# Altium integrated library main.IntLib: 37 symbols (part 1 of 2)
Pins are listed as number, name and electrical type; pins without a type are passive.

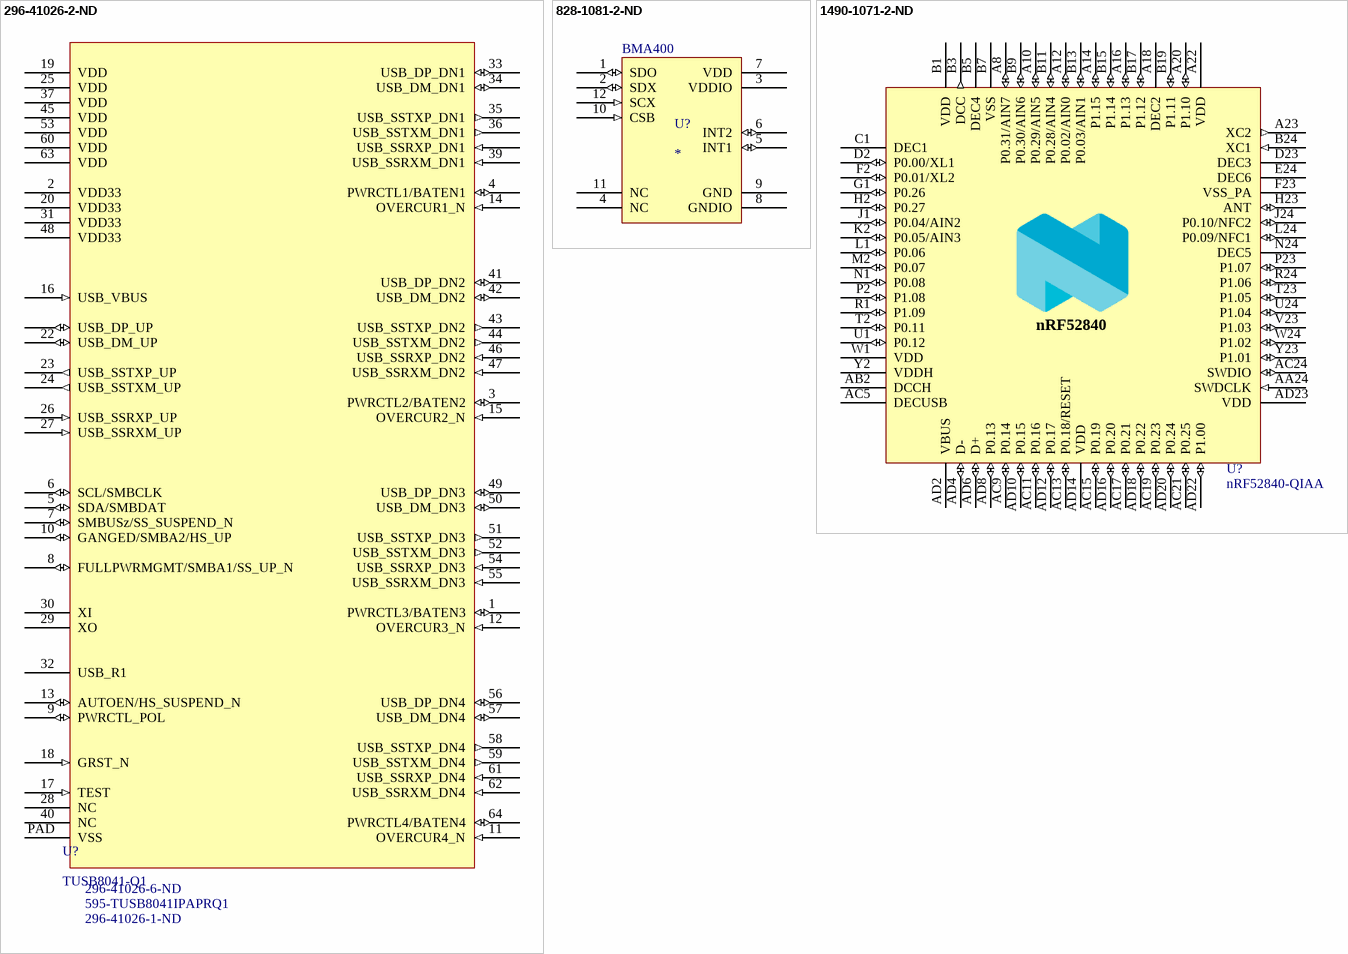
[diagram p0: symbols 296-41026-2-ND to 1490-1071-2-ND]

## 296-41026-2-ND
designator U?, comment TUSB8041-Q1  Supplier Part Number 1: 296-41026-1-ND  Supplier Part Number 2: 595-TUSB8041IPAPRQ1  Supplier Part Number 3: 296-41026-6-ND
Full Speed/High Speed/Super Speed Four Port USB 3.0 Hub USB 3.0 1.1V/3.3V T/R 64-Pin HTQFP EP; Manufacturer: Texas Instruments; Manufacturer Part Number: TUSB8041IPAPRQ1; Data Rate: 5Gbps; Number of Ports: 4; Interface: I2C,USB,GPIO,SMBus; Operating Supply Voltage: 3.3V; Supplier 1: Digi-Key; Supplier 2: Mouser; RoHS: Yes; Category: Integrated Circuits (ICs); Stock 1: 198; Pricing 1: 1=10.81000, 10=9.76800, 25=9.31360, 100=7.72340, 250=7.04188, 500=6.58758 (USD); Number of Pins: 64; Weight: 0.017506oz; Min Operating Temperature: -40°C; Max Operating Temperature: 85°C; Packaging: Tape and Reel; Package Quantity: 1000; Lead Free: Lead Free; ComponentLink1URL: https://datasheet.ciiva.com/48508/tusb8041-q1-48508158.pdf?src-supplier=Avnet; ComponentLink1Description: https://datasheet.ciiva.com/48508/tusb8041-q1-48508158.pdf?src-supplier=Avnet; Supplier 3: Digi-Key; Stock 3: 198; Pricing 3: 1=10.81000, 10=9.76800, 25=9.31360, 100=7.72340, 250=7.04188, 500=6.58758 (USD); Stock 2: 899; Pricing 2: 1=10.20000, 10=9.22000, 50=8.79000, 100=7.63000, 1000=5.79000, 10000=5.79000 (USD)
footprint TSQFP50P1200X1200X120_HS-65L (TSQFP, 64-Leads, Body 10.00x10.00mm, Pitch 0.50mm, Thermal Pad 8.00x8.00mm, IPC High Density)
pins: 1 PWRCTL3/BATEN3 (io) "USB Port 3 Power On Control for Downstream Power/Battery Charging Enable. The pin is used for control of the downstream power switch for Port 3.", 2 VDD33 (power) "3.3-V power rail", 3 PWRCTL2/BATEN2 (io) "USB Port 2 Power On Control for Downstream Power/Battery Charging Enable. The pin is used for control of the downstream power switch for Port 2.", 4 PWRCTL1/BATEN1 (io) "USB Port 1 Power On Control for Downstream Power/Battery Charging Enable. The pin is used for control of the downstream power switch for Port 1.", 5 SDA/SMBDAT (io) "I2C data/SMBus data. Function of pin depends on the setting of the SMBUSz input.", 6 SCL/SMBCLK (io) "I2C clock/SMBus clock. Function of pin depends on the setting of the SMBUSz input.", 7 SMBUSz/SS_SUSPEND_N (io) "I2C/SMBus mode select/SuperSpeed USB Suspend Status. The value of the pin is sampled at the de-assertion of reset set I2C or SMBus mode as follows:", 8 FULLPWRMGMT/SMBA1/SS_UP_N (io) "Full power management enable/SMBus address bit 1/SuperSpeed USB Connection Status Upstream port.", 9 PWRCTL_POL (io) "Power Control Polarity.", 10 GANGED/SMBA2/HS_UP (io) "Ganged operation enable/SMBus Address bit 2/HS Connection Status Upstream Port.", 11 OVERCUR4_N (in) "USB Port 4 Over-Current Detection. This pin is used to connect the over current output of the downstream port power switch for Port 4.", 12 OVERCUR3_N (in) "USB Port 3 Over-Current Detection. This pin is used to connect the over current output of the downstream port power switch for Port 3.", 13 AUTOEN/HS_SUSPEND_N (io) "Automatic Charge Mode Enable/HS Suspend Status.", 14 OVERCUR1_N (in) "USB Port 1 Over-Current Detection. This pin is used to connect the over current output of the downstream port power switch for Port 1.", 15 OVERCUR2_N (in) "USB Port 2 Over-Current Detection. This pin is used to connect the over current output of the downstream port power switch for Port 2.", 16 USB_VBUS (in) "USB upstream port power monitor. The VBUS detection requires a voltage divider. The signal USB_VBUS must be connected to VBUS through a 90.9-KΩ ±1% resistor, and to ground through a 10-kΩ ±1% resistor from the signal to ground.", 17 TEST (in) "This pin is reserved for factory test.", 18 GRST_N (in) "Global power reset. This reset brings all of the TUSB8041-Q1 internal registers to their default states. When GRSTz is asserted, the device is completely nonfunctional.", 19 VDD (power) "1.1-V power rail", 20 VDD33 (power) "3.3-V power rail", 21 USB_DP_UP (io) "USB High-speed differential transceiver (positive)", 22 USB_DM_UP (io) "USB High-speed differential transceiver (negative)", 23 USB_SSTXP_UP (out) "USB SuperSpeed transmitter differential pair (positive)", 24 USB_SSTXM_UP (out) "USB SuperSpeed transmitter differential pair (negative)", 25 VDD (power) "1.1-V power rail", 26 USB_SSRXP_UP (in) "USB SuperSpeed receiver differential pair (positive)", 27 USB_SSRXM_UP (in) "USB SuperSpeed receiver differential pair (negative)", 28 NC "No connect, leave floating", 29 XO "Crystal output. This pin is the crystal output for the internal oscillator. If XI is driven by an external oscillator this pin may be left unconnected. When using a crystal a 1-MΩ feedback resistor is required between XI and XO.", 30 XI "Crystal input. This pin is the crystal input for the internal oscillator. The input may alternately be driven by the output of an external oscillator. When using a crystal a 1-MΩ feedback resistor is required between XI and XO.", 31 VDD33 (power) "3.3-V power rail", 32 USB_R1 "Precision resistor reference. A 9.53-kΩ ±1% resistor should be connected between USB_R1 and GND.", 33 USB_DP_DN1 (io) "USB High-speed differential transceiver (positive)", 34 USB_DM_DN1 (io) "USB High-speed differential transceiver (negative)", 35 USB_SSTXP_DN1 (out) "USB SuperSpeed transmitter differential pair (positive)", 36 USB_SSTXM_DN1 (out) "USB SuperSpeed transmitter differential pair (negative)", 37 VDD (power) "1.1-V power rail", 38 USB_SSRXP_DN1 (in) "USB SuperSpeed receiver differential pair (positive)", 39 USB_SSRXM_DN1 (in) "USB SuperSpeed receiver differential pair (negative)", 40 NC "No connect, leave floating", 41 USB_DP_DN2 (io) "USB High-speed differential transceiver (positive)", 42 USB_DM_DN2 (io) "USB High-speed differential transceiver (negative)", 43 USB_SSTXP_DN2 (out) "USB SuperSpeed transmitter differential pair (positive)", 44 USB_SSTXM_DN2 (out) "USB SuperSpeed transmitter differential pair (negative)", 45 VDD (power) "1.1-V power rail", 46 USB_SSRXP_DN2 (in) "USB SuperSpeed receiver differential pair (positive)", 47 USB_SSRXM_DN2 (in) "USB SuperSpeed receiver differential pair (negative)", 48 VDD33 (power) "3.3-V power rail", 49 USB_DP_DN3 (io) "USB High-speed differential transceiver (positive)", 50 USB_DM_DN3 (io) "USB High-speed differential transceiver (negative)", 51 USB_SSTXP_DN3 (out) "USB SuperSpeed transmitter differential pair (positive)", 52 USB_SSTXM_DN3 (out) "USB SuperSpeed transmitter differential pair (negative)", 53 VDD (power) "1.1-V power rail", 54 USB_SSRXP_DN3 (in) "USB SuperSpeed receiver differential pair (positive)", 55 USB_SSRXM_DN3 (in) "USB SuperSpeed receiver differential pair (negative)", 56 USB_DP_DN4 (io) "USB High-speed differential transceiver (positive)", 57 USB_DM_DN4 (io) "USB High-speed differential transceiver (negative)", 58 USB_SSTXP_DN4 (out) "USB SuperSpeed transmitter differential pair (positive)", 59 USB_SSTXM_DN4 (out) "USB SuperSpeed transmitter differential pair (negative)", 60 VDD (power) "1.1-V power rail", 61 USB_SSRXP_DN4 (in) "USB SuperSpeed receiver differential pair (positive)", 62 USB_SSRXM_DN4 (in) "USB SuperSpeed receiver differential pair (negative)", 63 VDD (power) "1.1-V power rail", 64 PWRCTL4/BATEN4 (io) "USB Port 4 Power On Control for Downstream Power/Battery Charging Enable. The pin is used for control of the downstream power switch for Port 4.", PAD VSS (power) "Ground. Thermal pad must be connected to ground."

## 828-1081-2-ND
designator U?  Supplier Part Number: BMA400
ACCELERATION DIGITAL, TRIAXIAL; Manufacturer: Bosch Tools; Supplier 1: Digi-Key; Supplier 2: Mouser; Supplier: Arrow Electronics Inc.; Manufacturer Part Number: BMA400
pins: 1 SDO (io), 2 SDX (io), 3 VDDIO (power), 4 NC, 5 INT1 (io), 6 INT2 (io), 7 VDD (power), 8 GNDIO (power), 9 GND (power), 10 CSB (in), 11 NC, 12 SCX (in)

## 1490-1071-2-ND
designator U?, comment nRF52840-QIAA
Multi-protocol Bluetooth Low Energy, IEEE 802.15.4, ANT and 2.4GHz proprietary system-on-chip; Part Number: nRF52840-QIAAC0; Manufacturer: Nordic Semiconductor; LatestRevisionDate: 2018-02-27; Pin Count: 73; Publisher: Nordic Semiconductor; Published: 2017-08-21; Value: nRF52840-QIAA; Note: *; Footprint Doc: AQFN-73; Manufacturer Part Number: nRF52840-QIAAC0; Supplier 1: Digi-Key; Supplier Part Number 1: 1490-1071-2-ND
footprint AQFN50P700X700X85_HS-74N
pins: 74 GND (power) hidden to GND, A8 P0.31/AIN7 (io), A10 P0.29/AIN5 (io), A12 P0.02/AIN0 (io), A14 P1.15 (io), A16 P1.13 (io), A18 DEC2 (power), A20 P1.10 (io), A22 VDD (power), A23 XC2 (out), AA24 SWDCLK (in), AB2 DCCH (power), AC5 DECUSB (power), AC9 P0.14 (io), AC11 P0.16 (io), AC13 P0.18/RESET (io), AC15 P0.19 (io), AC17 P0.21 (io), AC19 P0.23 (io), AC21 P0.25 (io), AC24 SWDIO (io), AD2 VBUS (power), AD4 D- (io), AD6 D+ (io), AD8 P0.13 (io), AD10 P0.15 (io), AD12 P0.17 (io), AD14 VDD (power), AD16 P0.20 (io), AD18 P0.22 (io), AD20 P0.24 (io), AD22 P1.00 (io), AD23 VDD (power), B1 VDD (power), B3 DCC (out), B5 DEC4 (power), B7 VSS (power), B9 P0.30/AIN6 (io), B11 P0.28/AIN4 (io), B13 P0.03/AIN1 (io), B15 P1.14 (io), B17 P1.12 (io), B19 P1.11 (io), B24 XC1 (in), C1 DEC1 (power), D2 P0.00/XL1 (io), D23 DEC3 (power), E24 DEC6 (power), F2 P0.01/XL2 (io), F23 VSS_PA (power), G1 P0.26 (io), H2 P0.27 (io), H23 ANT (io), J1 P0.04/AIN2 (io), J24 P0.10/NFC2 (io), K2 P0.05/AIN3 (io), L1 P0.06 (io), L24 P0.09/NFC1 (io), M2 P0.07 (io), N1 P0.08 (io), N24 DEC5 (power), P2 P1.08 (io), P23 P1.07 (io), R1 P1.09 (io), R24 P1.06 (io), T2 P0.11 (io), T23 P1.05 (io), U1 P0.12 (io), U24 P1.04 (io), V23 P1.03 (io), W1 VDD (power), W24 P1.02 (io), Y2 VDDH (power), Y23 P1.01 (io)
text: nRF52840

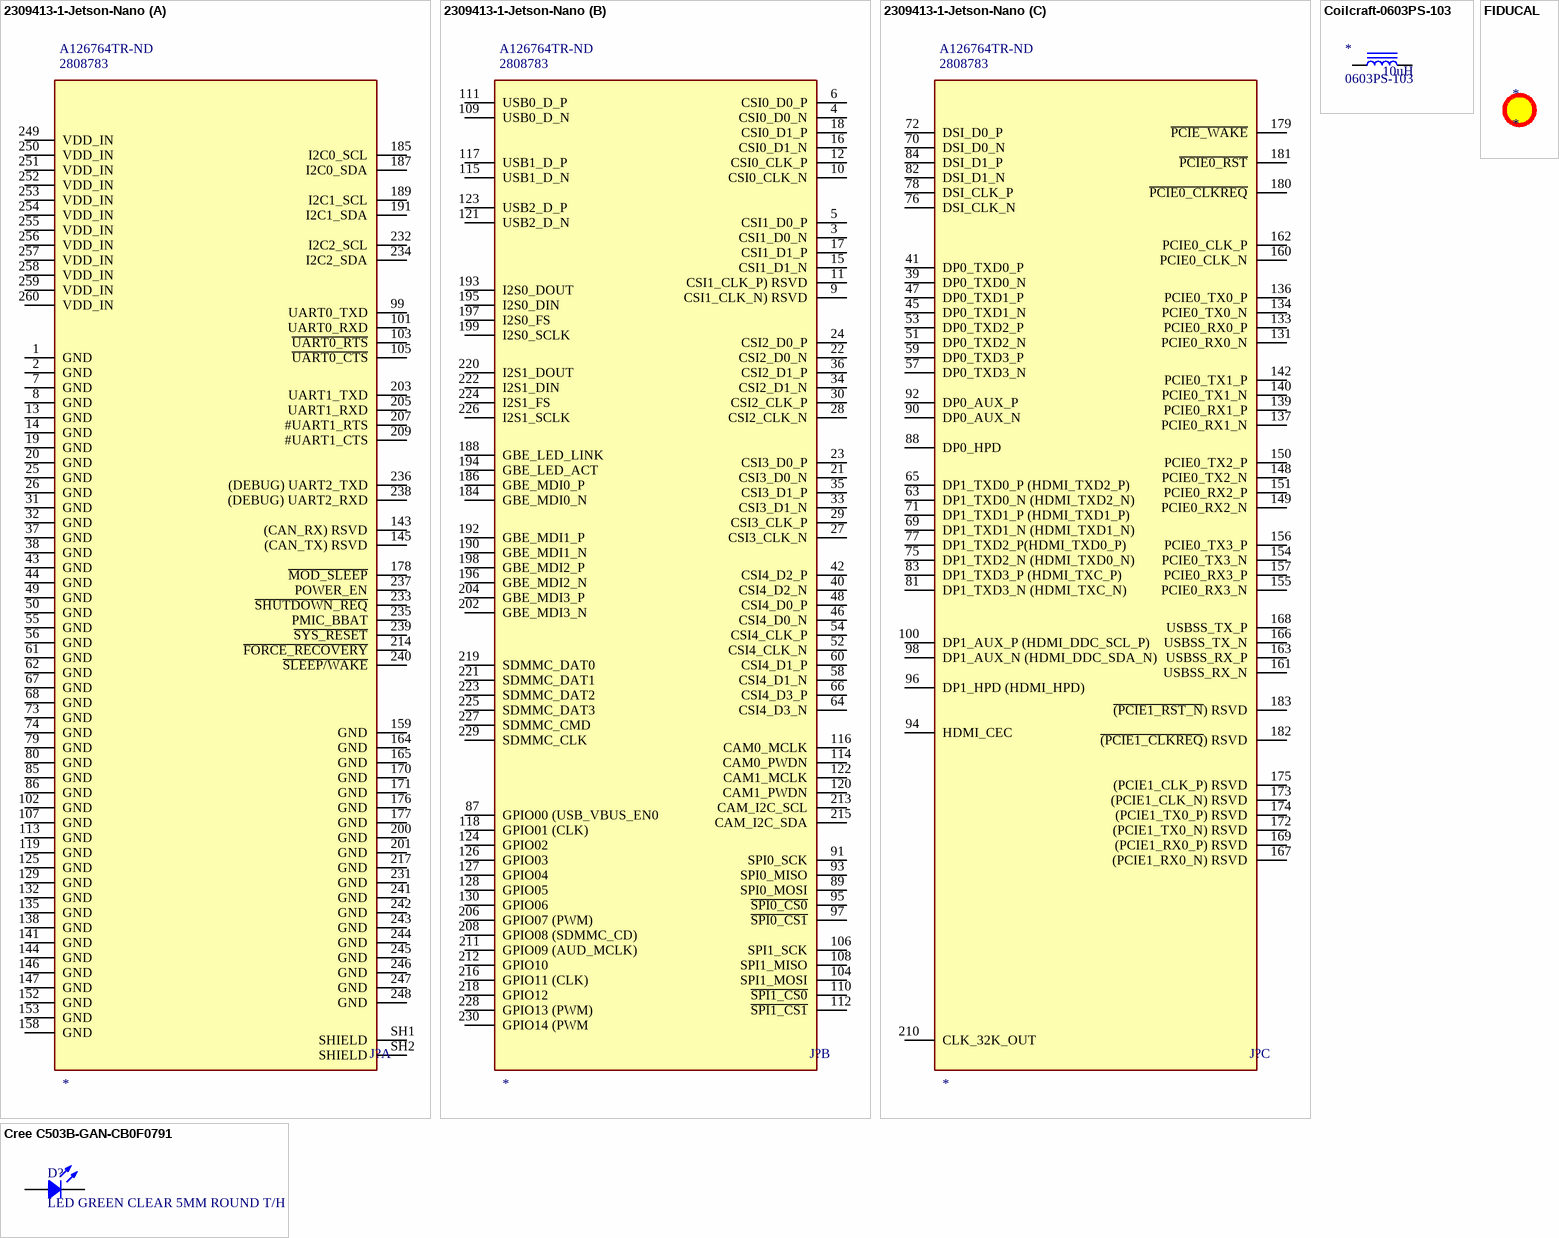
[diagram p1: symbols 2309413-1-Jetson-Nano to FIDUCAL]

## 2309413-1-Jetson-Nano
designator J?, comment Supplier Part Number 1: 2808783  Supplier Part Number 2: A126764TR-ND  (hidden comment: 2309413-1)
Conn DDR4 DIMM Socket SKT 260 POS 0.5mm Solder RA SMD T/R for Jetson Nano; Number_of_Positions: 260; MF: TE Connectivity; Centerline_Pitch: .5 mm[.0197 in]; Product_Type: Socket; TE_purchase_URL: https://www.te.com/usa-en/product-2309413-1.html?te_bu=Cor&te_type=disp&te_campaign=seda_glo_cor-seda-global-disp-prtnr-fy19-seda-model-bom-cta_sma-317_1&elqCampaignId=32493; Package: None; SnapEDA_Link: https://www.snapeda.com/parts/2309413-1/TE%20Connectivity%20AMP%20Connectors/view-part/2381121/?ref=snap; MP: 2309413-1; Value: *; Availability: Unavailable; EU_RoHS_Compliance: Compliant; Price: None; Supplier 1: Farnell; Supplier 2: Digi-Key; Comment_1: *
footprint TE_2309413-1
part A pins: 1 GND, 2 GND, 7 GND, 8 GND, 13 GND, 14 GND, 19 GND, 20 GND, 25 GND, 26 GND, 31 GND, 32 GND, 37 GND, 38 GND, 43 GND, 44 GND, 49 GND, 50 GND, 55 GND, 56 GND, 61 GND, 62 GND, 67 GND, 68 GND, 73 GND, 74 GND, 79 GND, 80 GND, 85 GND, 86 GND, 99 UART0_TXD, 101 UART0_RXD, 102 GND, 103 ~{UART0_RTS}, 105 ~{UART0_CTS}, 107 GND, 113 GND, 119 GND, 125 GND, 129 GND, 132 GND, 135 GND, 138 GND, 141 GND, 143 (CAN_RX) RSVD, 144 GND, 145 (CAN_TX) RSVD, 146 GND, 147 GND, 152 GND, 153 GND, 158 GND, 159 GND, 164 GND, 165 GND, 170 GND, 171 GND, 176 GND, 177 GND, 178 ~{MOD_SLEEP}, 185 I2C0_SCL, 187 I2C0_SDA, 189 I2C1_SCL, 191 I2C1_SDA, 200 GND, 201 GND, 203 UART1_TXD, 205 UART1_RXD, 207 #UART1_RTS, 209 #UART1_CTS, 214 ~{FORCE_RECOVERY}, 217 GND, 231 GND, 232 I2C2_SCL, 233 ~{SHUTDOWN_REQ}, 234 I2C2_SDA, 235 PMIC_BBAT, 236 (DEBUG) UART2_TXD, 237 POWER_EN, 238 (DEBUG) UART2_RXD, 239 ~{SYS_RESET}, 240 ~{SLEEP/WAKE}, 241 GND, 242 GND, 243 GND, 244 GND, 245 GND, 246 GND, 247 GND, 248 GND, 249 VDD_IN (power), 250 VDD_IN (power), 251 VDD_IN (power), 252 VDD_IN (power), 253 VDD_IN (power), 254 VDD_IN (power), 255 VDD_IN (power), 256 VDD_IN (power), 257 VDD_IN (power), 258 VDD_IN (power), 259 VDD_IN (power), 260 VDD_IN (power), SH1 SHIELD (power), SH2 SHIELD (power)
part B pins: 3 CSI1_D0_N, 4 CSI0_D0_N, 5 CSI1_D0_P, 6 CSI0_D0_P, 9 CSI1_CLK_N) RSVD, 10 CSI0_CLK_N, 11 CSI1_CLK_P) RSVD, 12 CSI0_CLK_P, 15 CSI1_D1_N, 16 CSI0_D1_N, 17 CSI1_D1_P, 18 CSI0_D1_P, 21 CSI3_D0_N, 22 CSI2_D0_N, 23 CSI3_D0_P, 24 CSI2_D0_P, 27 CSI3_CLK_N, 28 CSI2_CLK_N, 29 CSI3_CLK_P, 30 CSI2_CLK_P, 33 CSI3_D1_N, 34 CSI2_D1_N, 35 CSI3_D1_P, 36 CSI2_D1_P, 40 CSI4_D2_N, 42 CSI4_D2_P, 46 CSI4_D0_N, 48 CSI4_D0_P, 52 CSI4_CLK_N, 54 CSI4_CLK_P, 58 CSI4_D1_N, 60 CSI4_D1_P, 64 CSI4_D3_N, 66 CSI4_D3_P, 87 GPIO00 (USB_VBUS_EN0, 89 SPI0_MOSI, 91 SPI0_SCK, 93 SPI0_MISO, 95 ~{SPI0_CS0}, 97 ~{SPI0_CS1}, 104 SPI1_MOSI, 106 SPI1_SCK, 108 SPI1_MISO, 109 USB0_D_N, 110 ~{SPI1_CS0}, 111 USB0_D_P, 112 ~{SPI1_CS1}, 114 CAM0_PWDN, 115 USB1_D_N, 116 CAM0_MCLK, 117 USB1_D_P, 118 GPIO01 (CLK), 120 CAM1_PWDN, 121 USB2_D_N, 122 CAM1_MCLK, 123 USB2_D_P, 124 GPIO02, 126 GPIO03, 127 GPIO04, 128 GPIO05, 130 GPIO06, 184 GBE_MDI0_N, 186 GBE_MDI0_P, 188 GBE_LED_LINK, 190 GBE_MDI1_N, 192 GBE_MDI1_P, 193 I2S0_DOUT, 194 GBE_LED_ACT, 195 I2S0_DIN, 196 GBE_MDI2_N, 197 I2S0_FS, 198 GBE_MDI2_P, 199 I2S0_SCLK, 202 GBE_MDI3_N, 204 GBE_MDI3_P, 206 GPIO07 (PWM), 208 GPIO08 (SDMMC_CD), 211 GPIO09 (AUD_MCLK), 212 GPIO10, 213 CAM_I2C_SCL, 215 CAM_I2C_SDA, 216 GPIO11 (CLK), 218 GPIO12, 219 SDMMC_DAT0, 220 I2S1_DOUT, 221 SDMMC_DAT1, 222 I2S1_DIN, 223 SDMMC_DAT2, 224 I2S1_FS, 225 SDMMC_DAT3, 226 I2S1_SCLK, 227 SDMMC_CMD, 228 GPIO13 (PWM), 229 SDMMC_CLK, 230 GPIO14 (PWM
part C pins: 39 DP0_TXD0_N, 41 DP0_TXD0_P, 45 DP0_TXD1_N, 47 DP0_TXD1_P, 51 DP0_TXD2_N, 53 DP0_TXD2_P, 57 DP0_TXD3_N, 59 DP0_TXD3_P, 63 DP1_TXD0_N (HDMI_TXD2_N), 65 DP1_TXD0_P (HDMI_TXD2_P), 69 DP1_TXD1_N (HDMI_TXD1_N), 70 DSI_D0_N, 71 DP1_TXD1_P (HDMI_TXD1_P), 72 DSI_D0_P, 75 DP1_TXD2_N (HDMI_TXD0_N), 76 DSI_CLK_N, 77 DP1_TXD2_P(HDMI_TXD0_P), 78 DSI_CLK_P, 81 DP1_TXD3_N (HDMI_TXC_N), 82 DSI_D1_N, 83 DP1_TXD3_P (HDMI_TXC_P), 84 DSI_D1_P, 88 DP0_HPD, 90 DP0_AUX_N, 92 DP0_AUX_P, 94 HDMI_CEC, 96 DP1_HPD (HDMI_HPD), 98 DP1_AUX_N (HDMI_DDC_SDA_N), 100 DP1_AUX_P (HDMI_DDC_SCL_P), 131 PCIE0_RX0_N, 133 PCIE0_RX0_P, 134 PCIE0_TX0_N, 136 PCIE0_TX0_P, 137 PCIE0_RX1_N, 139 PCIE0_RX1_P, 140 PCIE0_TX1_N, 142 PCIE0_TX1_P, 148 PCIE0_TX2_N, 149 PCIE0_RX2_N, 150 PCIE0_TX2_P, 151 PCIE0_RX2_P, 154 PCIE0_TX3_N, 155 PCIE0_RX3_N, 156 PCIE0_TX3_P, 157 PCIE0_RX3_P, 160 PCIE0_CLK_N, 161 USBSS_RX_N, 162 PCIE0_CLK_P, 163 USBSS_RX_P, 166 USBSS_TX_N, 167 (PCIE1_RX0_N) RSVD, 168 USBSS_TX_P, 169 (PCIE1_RX0_P) RSVD, 172 (PCIE1_TX0_N) RSVD, 173 (PCIE1_CLK_N) RSVD, 174 (PCIE1_TX0_P) RSVD, 175 (PCIE1_CLK_P) RSVD, 179 ~{PCIE_WAKE}, 180 ~{PCIE0_CLKREQ}, 181 ~{PCIE0_RST}, 182 ~{(PCIE1_CLKREQ}) RSVD, 183 ~{(PCIE1_RST_N}) RSVD, 210 CLK_32K_OUT

## Coilcraft-0603PS-103
designator *, comment 0603PS-103  value 10uH
Supplier 1: Mouser; Supplier Part Number 1: 994-0603PS-103KRC
footprint Coilcraft-0603PS-103 (Chip Inductor, 2-Leads, Body 2.59x2.08mm, IPC High Density)
pins: 1, 2

## Cree C503B-GAN-CB0F0791
designator D?, comment LED GREEN CLEAR 5MM ROUND T/H
Manufacturer: Cree; Manufacturer Part Number: C503B-GAN-CB0F0791; Lens Color: Colorless; Luminous Intensity: 34000mcd; Viewing Angle: 15°; Forward Voltage: 3.2V; Lens Style: Dome,Round; Wavelength: 535nm; Forward Current: 20mA; Dominant Wavelength: 527nm; Number of Elements: 1; Power Dissipation: 120mW; Reverse Voltage: 5V; Supplier 1: Digi-Key; Supplier Part Number 1: C503B-GAN-CB0F0791-ND; RoHS: Yes; Category: LEDs; Stock 1: 10226; Pricing 1: 1=0.24000, 10=0.22700, 100=0.20980, 1000=0.18769, 50000=0.17429 (USD); Mount: Through Hole; Case/Package: Radial; Number of Pins: 2; Color: Green; Weight: 0.01lb; Min Operating Temperature: -40°C; Max Operating Temperature: 95°C; Packaging: Bulk; Illumination Color: Green; Lens Transparency: Clear; Test Current: 20mA; Number of LEDs: 1; Series: -; Length: 5.8mm; Width: 0.5inch; Height: 8.8mm; Depth: 5.8mm; Radiation Hardening: No; REACH SVHC: Unknown; RoHS Compliant: Yes; ComponentLink1URL: https://datasheet.ciiva.com/26926/getdatasheetpartid-467667-26926700.pdf?src-supplier=Verical; ComponentLink1Description: https://datasheet.ciiva.com/26926/getdatasheetpartid-467667-26926700.pdf?src-supplier=Verical; ComponentLink2URL: https://datasheet.ciiva.com/1331/1604976-1331799.pdf?src-supplier=Newark; ComponentLink2Description: https://datasheet.ciiva.com/1331/1604976-1331799.pdf?src-supplier=Newark; ComponentLink3URL: https://datasheet.ciiva.com/8076/c503bbasbanbcsbcngasgangcsgcn1094-8076247.pdf?src-supplier=Element14; ComponentLink3Description: https://datasheet.ciiva.com/8076/c503bbasbanbcsbcngasgangcsgcn1094-8076247.pdf?src-supplier=Element14; ComponentLink4URL: https://datasheet.ciiva.com/2111/1300c503bbasbangasgan-2111678.pdf?src-supplier=Digi-Key; ComponentLink4Description: https://datasheet.ciiva.com/2111/1300c503bbasbangasgan-2111678.pdf?src-supplier=Digi-Key; Supplier 2: Avnet; Supplier Part Number 2: 04R6676; Supplier 3: Farnell; Supplier Part Number 3: 1855510
footprint Generic 2.54mm LED THT
pins: 1, 2

## FIDUCAL
designator *

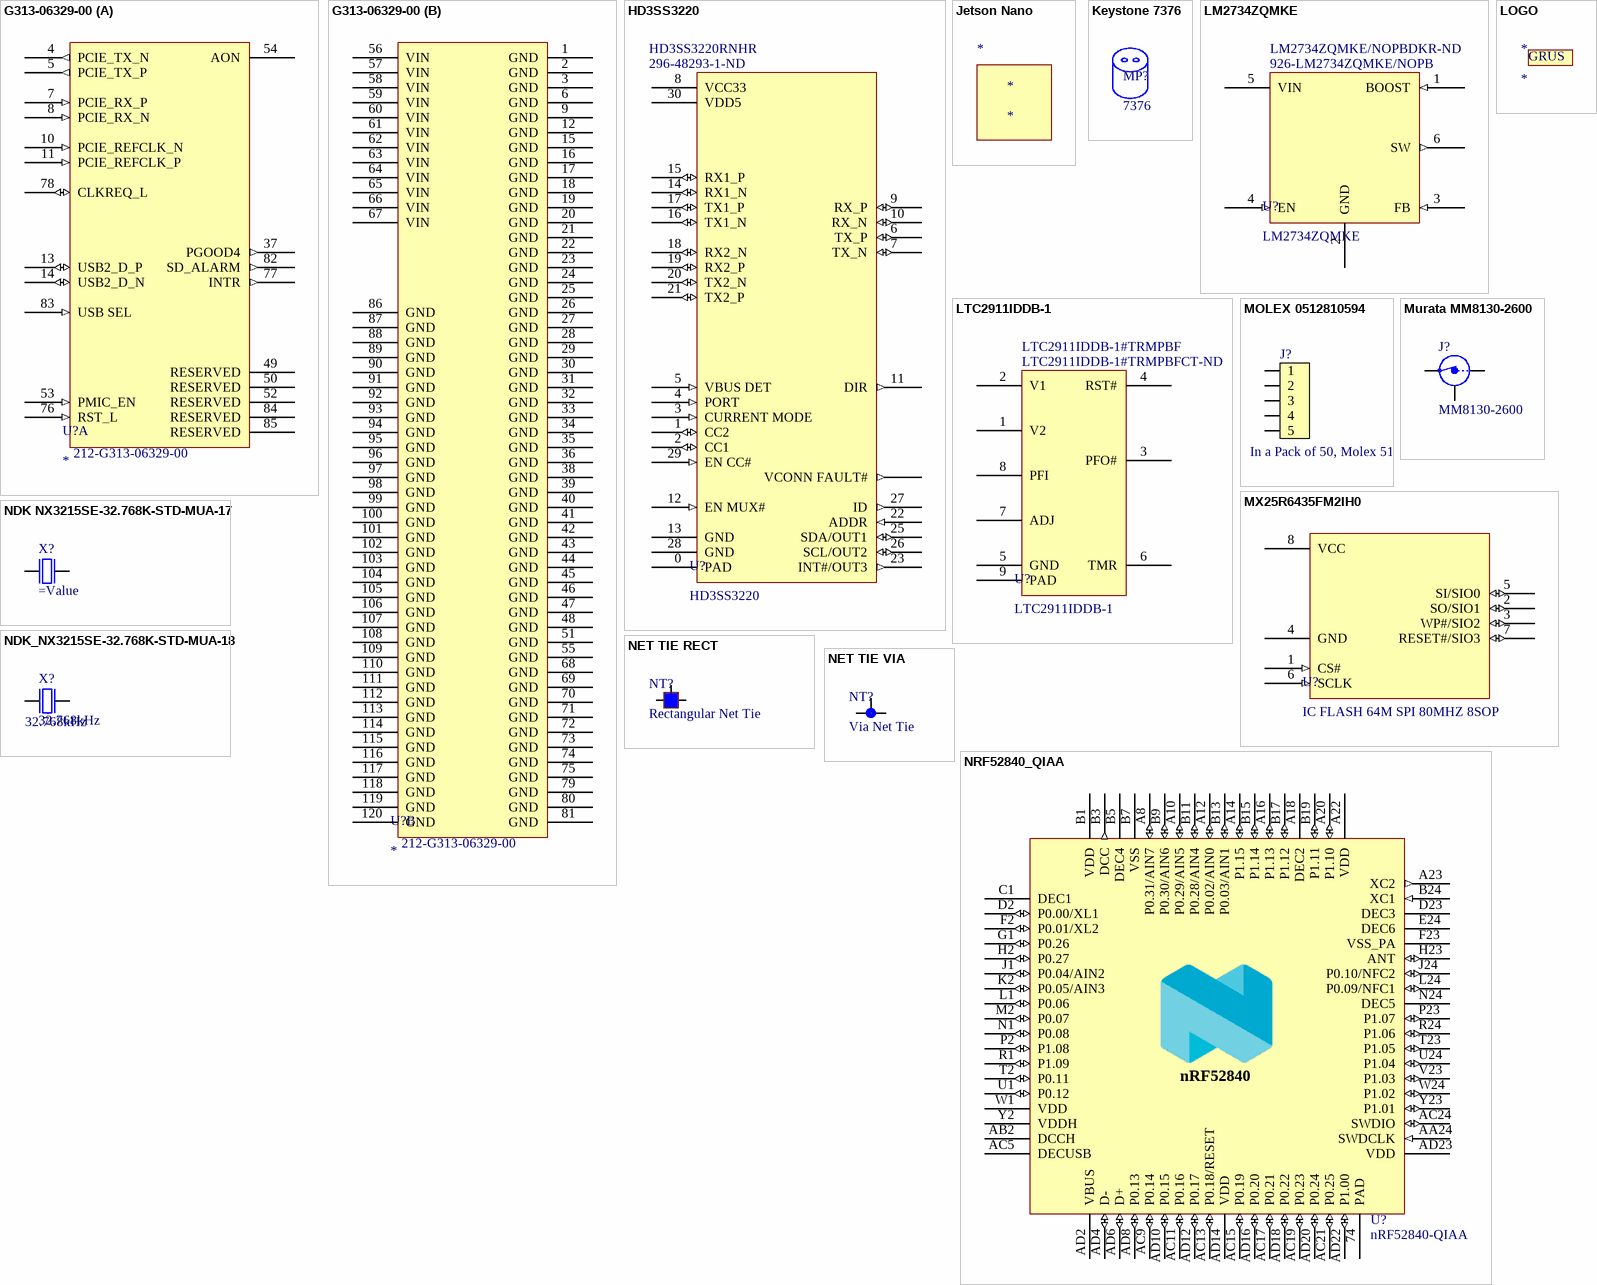
[diagram p2: symbols G313-06329-00 to NRF52840_QIAA]

## G313-06329-00
designator U?  Supplier Part Number 1: 212-G313-06329-00
Manufacturer: Google; Manufacturer Part Number: G313-06329-00; Supplier 1: Mouser; RoHS: No
footprint G313-06329-00
part A pins: 4 PCIE_TX_N (out) "PCIe differential transmit pair. Has internal 0.1 μF DC-blocking cap.", 5 PCIE_TX_P (out) "PCIe differential transmit pair. Has internal 0.1 μF DC-blocking cap.", 7 PCIE_RX_P (in) "PCIe differential receive pair.", 8 PCIE_RX_N (in) "PCIe differential receive pair.", 10 PCIE_REFCLK_N (in) "PCIe differential reference clock.", 11 PCIE_REFCLK_P (in) "PCIe differential reference clock.", 13 USB2_D_P (io) "USB2 DP interface.", 14 USB2_D_N (io) "USB2 DN interface.", 37 PGOOD4 (out) "Optional. Power OK signal, active high. Has internal 10K pull-down.", 49 RESERVED "Reserved. If using single 3.3 V supply, ground. Otherwise, DNC.", 50 RESERVED "Reserved. If using single 3.3 V supply, ground. Otherwise, DNC.", 52 RESERVED "Reserved. DNC.", 53 PMIC_EN (in) "Power enable input. Must drive high to enable the module.", 54 AON (power) "Power supply for digital communications (PMIC)", 76 RST_L (in) "System reset. Active low. Has internal weak pull-down, but you must be sure it's held low during  power-up. Size the pull-up strength of the driver accordingly", 77 INTR (out) "Optional. This is the first line that goes high at a specified Edge TPU  junction temperature. Recommended for thermal management. Has  internal 100k pull-down.", 78 CLKREQ_L (io) "Optional. Low-power mode option for PCIe. This is a bidirectional  open drain I/O. It should be implemented as per the PCIe spec,  including a proper bidirectional level translator. On systems that  never invoke low power modes, this can be tied low.", 82 SD_ALARM (out) "Shutdown alarm. This is the second line that goes high at a specified  Edge TPU junction temperature. This should trigger shutdown. Has  internal 100k pull-down", 83 USB SEL (in) "Pull high (1.8 V) to enable USB2  mode. Has internal 4.7k  pull-down. Use 0 ohm or tie  directly to 1.8V.", 84 RESERVED "Reserved. DNC.", 85 RESERVED "Reserved. DNC."
part B pins: 1 GND, 2 GND, 3 GND, 6 GND, 9 GND, 12 GND, 15 GND, 16 GND, 17 GND, 18 GND, 19 GND, 20 GND, 21 GND, 22 GND, 23 GND, 24 GND, 25 GND, 26 GND, 27 GND, 28 GND, 29 GND, 30 GND, 31 GND, 32 GND, 33 GND, 34 GND, 35 GND, 36 GND, 38 GND, 39 GND, 40 GND, 41 GND, 42 GND, 43 GND, 44 GND, 45 GND, 46 GND, 47 GND, 48 GND, 51 GND, 55 GND, 56 VIN (power) "3.3 V power supply.", 57 VIN (power) "3.3 V power supply.", 58 VIN (power) "3.3 V power supply.", 59 VIN (power) "3.3 V power supply.", 60 VIN (power) "3.3 V power supply.", 61 VIN (power) "3.3 V power supply.", 62 VIN (power) "3.3 V power supply.", 63 VIN (power) "3.3 V power supply.", 64 VIN (power) "3.3 V power supply.", 65 VIN (power) "3.3 V power supply.", 66 VIN (power) "3.3 V power supply.", 67 VIN (power) "3.3 V power supply.", 68 GND, 69 GND, 70 GND, 71 GND, 72 GND, 73 GND, 74 GND, 75 GND, 79 GND, 80 GND, 81 GND, 86 GND, 87 GND, 88 GND, 89 GND, 90 GND, 91 GND, 92 GND, 93 GND, 94 GND, 95 GND, 96 GND, 97 GND, 98 GND, 99 GND, 100 GND, 101 GND, 102 GND, 103 GND, 104 GND, 105 GND, 106 GND, 107 GND, 108 GND, 109 GND, 110 GND, 111 GND, 112 GND, 113 GND, 114 GND, 115 GND, 116 GND, 117 GND, 118 GND, 119 GND, 120 GND

## HD3SS3220
designator U?  Supplier Part Number 1: 296-48293-1-ND  Supplier Part Number 2: HD3SS3220RNHR
IC DRP PORT CTLR USB-C 30WQFN; Manufacturer: Texas Instruments; Supplier 1: Digi-Key; Manufacturer Part Number: HD3SS3220RNHR; RoHS: Yes; Category: Power Management ICs; Stock 1: 569; Pricing 1: 1=3.23000, 10=2.90100, 25=2.74280, 100=2.25520, 250=2.02352, 500=1.95040, 1000=1.62127 (USD); Mount: Surface Mount; Min Operating Temperature: 0°C; Max Operating Temperature: 70°C; Packaging: Tape and Reel; Lead Free: Lead Free; RoHS Compliant: Yes; ComponentLink1URL: http://www.ti.com/lit/gpn/hd3ss3220?src-supplier=Mouser; ComponentLink1Description: http://www.ti.com/lit/gpn/hd3ss3220?src-supplier=Mouser; ComponentLink2URL: http://www.ti.com/lit/ds/symlink/hd3ss3220.pdf?src-supplier=Digi-Key; ComponentLink2Description: http://www.ti.com/lit/ds/symlink/hd3ss3220.pdf?src-supplier=Digi-Key; ComponentLink3URL: http://www.ti.com/general/docs/suppproductinfo.tsp?distId=10&amp;gotoUrl=http%3A%2F%2Fwww.ti.com%2Flit%2Fgpn%2Fhd3ss3220&src-supplier=Digi-Key; ComponentLink3Description: http://www.ti.com/general/docs/suppproductinfo.tsp?distId=10&amp;gotoUrl=http%3A%2F%2Fwww.ti.com%2Flit%2Fgpn%2Fhd3ss3220&src-supplier=Digi-Key; Supplier 2: Arrow Electronics; Stock 2: 416; Pricing 2: 1=3.73630, 10=3.40400, 25=3.00030, 100=2.66110, 250=2.49660, 3000=1.61000, 30000=1.58500, 300000=1.43200, 1500000=1.33300, 3000000=1.33100 (USD)
footprint PQFN40P250X450X80_HS-31L (PQFN, 30-Leads, Body 2.50x4.50mm, Pitch 0.40mm, Thermal Pad 1.20x3.20mm, IPC High Density)
pins: 0 PAD, 1 CC2 (io), 2 CC1 (io), 3 CURRENT MODE (in), 4 PORT (in), 5 VBUS DET (in), 6 TX_P (io), 7 TX_N (io), 8 VCC33 (power), 9 RX_P (io), 10 RX_N (io), 11 DIR (out), 12 EN MUX# (in), 13 GND, 14 RX1_N (io), 15 RX1_P (io), 16 TX1_N (io), 17 TX1_P (io), 18 RX2_N (io), 19 RX2_P (io), 20 TX2_N (io), 21 TX2_P (io), 22 ADDR (in), 23 INT#/OUT3 (out), 24 VCONN FAULT# (out), 25 SDA/OUT1 (io), 26 SCL/OUT2 (io), 27 ID (out), 28 GND, 29 EN CC# (in), 30 VDD5 (power)

## Jetson Nano
designator *
footprint 900-13448-0020-000 (NVidia Jetson Nano 3D Body)

## Keystone 7376
designator MP?, comment 7376  (mechanical)
SPACER LED MTG T1 .650"L NAT NYL; Manufacturer: Keystone Electronics; Approvals: UL; Body Material: Nylon; Outside Diameter: 5mm; Supplier 1: Digi-Key; Supplier Part Number 1: 36-7376-ND; Supplier 2: Future Electronics; Supplier Part Number 2: 9604604; Supplier 3: Mouser; Supplier Part Number 3: 534-7376; Category: LEDs; Color: Natural; Diameter: 0.075inch; Flammability Rating: UL94 V-0; Lead Free: Lead Free; Length: 0.65inch; Manufacturer Part Number: 7376; Material: Nylon; Mount: Hardware; Package Quantity: 100; Packaging: Bag; Supplier Packaging 1: Bulk; Supplier Unit Price 1: €0.23798; Supplier Location 1: US
footprint Keystone 7376

## LM2734ZQMKE
designator U?  Supplier Part Number 1: 926-LM2734ZQMKE/NOPB  Supplier Part Number 2: LM2734ZQMKE/NOPBDKR-ND
IC BUCK ADJ 1A TSOT23-6; Manufacturer: TI National Semiconductor; Manufacturer Part Number: LM2734ZQMKE/NOPB; Output Voltage: 18V; Number of Outputs: 1; Min Input Voltage: 3V; Max Input Voltage: 20V; Switching Frequency: 3MHz; Min Output Voltage: 800mV; Efficiency: 85%; Synchronous Rectifier: No; Quiescent Current: 1.7mA; Output Type: Adjustable; Output Configuration: Positive; Supplier 1: Mouser; RoHS: Yes; Category: Voltage Regulators - Switching; Stock 1: 240; Pricing 1: 1=4.58000, 10=4.11000, 50=3.89000, 100=3.20000, 1000=2.30000, 10000=2.22000 (USD); Mount: Surface Mount; Case/Package: SOT-23-6; Number of Pins: 6; Min Operating Temperature: -40°C; Max Operating Temperature: 125°C; Packaging: Tape and Reel; Max Output Current: 1A; Output Current: 1A; Max Output Voltage: 18V; Package Quantity: 250; Operating Supply Voltage: 20V; Series: Automotive, AEC-Q100; Radiation Hardening: No; REACH SVHC: No SVHC; RoHS Compliant: Yes; Lead Free: Lead Free; ComponentLink1URL: https://datasheet.ciiva.com/6604/lm2734z-6604454.pdf?src-supplier=Digi-Key; ComponentLink1Description: https://datasheet.ciiva.com/6604/lm2734z-6604454.pdf?src-supplier=Digi-Key; ComponentLink2URL: https://datasheet.ciiva.com/14304/lm2734z-q1-14304614.pdf?src-supplier=Avnet; ComponentLink2Description: https://datasheet.ciiva.com/14304/lm2734z-q1-14304614.pdf?src-supplier=Avnet; ComponentLink3URL: https://datasheet.ciiva.com/6604/lm2734z-6604455.pdf?src-supplier=Digi-Key; ComponentLink3Description: https://datasheet.ciiva.com/6604/lm2734z-6604455.pdf?src-supplier=Digi-Key; ComponentLink4URL: https://datasheet.ciiva.com/6604/lm2734z-6604456.pdf?src-supplier=Digi-Key; ComponentLink4Description: https://datasheet.ciiva.com/6604/lm2734z-6604456.pdf?src-supplier=Digi-Key; ComponentLink5URL: https://datasheet.ciiva.com/49118/85233-49118479.pdf?src-supplier=Element14; ComponentLink5Description: https://datasheet.ciiva.com/49118/85233-49118479.pdf?src-supplier=Element14; Supplier 2: Digi-Key; Stock 2: 20; Pricing 2: 1=4.85000, 10=4.35700, 25=4.11880, 100=3.38660 (USD)
footprint SOT95P280X110-6L (SOT23, 6-Leads, Body 2.90x2.80mm, Pitch 0.95mm, IPC High Density)
pins: 1 BOOST (in) "Boost voltage that drives the internal NMOS control switch. A bootstrap BOOST 1 3 I  capacitor is connected between the BOOST and SW pins.", 2 GND (power) "Signal and Power ground pin. Place the bottom resistor of the feedback network GND 2 2 P  as close as possible to this pin for accurate regulation.", 3 FB (in) "Feedback pin. Connect FB to the external resistor divider to set output voltage", 4 EN (in) "Enable control input. Logic high enables operation. Do not allow this pin to float EN 4 6 I  or be greater than VIN + 0.3 V.", 5 VIN (power) "Input supply voltage. Connect a bypass capacitor to this pin.", 6 SW (out) "Output switch. Connects to the inductor, catch diode, and bootstrap capacitor."

## LOGO
designator *
footprint PCBComponent_1
footprint GRUS LOGO SILKSCREEN
text: GRUS

## LTC2911IDDB-1
designator U?  Supplier Part Number 1: LTC2911IDDB-1#TRMPBFCT-ND  Supplier Part Number 2: LTC2911IDDB-1#TRMPBF
IC TRPL SUPPLY MONITOR 8-DFN; Manufacturer: Analog Devices / Linear Technology; Number of Voltages Monitored: 3; Reset: Active Low; Threshold Voltage: 4.675V; Output: TOTEM-POLE; Supplier 1: Digi-Key; Manufacturer Part Number: LTC2911IDDB-1#TRMPBF; RoHS: Yes; Category: Voltage Supervisors; Stock 1: 353; Pricing 1: 1=4.80000, 10=4.31400, 25=4.07840, 100=3.35330, 250=3.00892 (USD); Case/Package: DFN; Number of Pins: 8; Min Operating Temperature: -40°C; Max Operating Temperature: 85°C; Package Quantity: 500; Packaging: Tape and Reel; Type: Multi-Voltage Supervisor,Power Supply Monitor; Series: -; RoHS Compliant: Yes; Lead Free: Lead Free; ComponentLink1URL: https://datasheet.ciiva.com/1978/29887-1978752.pdf?src-supplier=Digi-Key; ComponentLink1Description: https://datasheet.ciiva.com/1978/29887-1978752.pdf?src-supplier=Digi-Key; Supplier 2: Arrow Electronics; Stock 2: 64; Pricing 2: 1=2.50000, 100=2.19300, 500=2.12000 (USD)
footprint SON50P200X80_HS-9L (SON, 8-Leads, Body 3.00x2.00mm, Pitch 0.50mm, Thermal Pad 0.00x0.00mm, IPC High Density)
pins: 1 V2 "Voltage Monitor and Power Supply Input. V2 is a  –5% undervoltage supply monitor for a 5V, 2.5V, 1.8V  or 1.2V supply for the LTC2911-1/LTC2911-2/LTC2911-  3/LTC2911-4 options, respectively.", 2 V1 "3.3V Monitor and Power Supply Input.", 3 PFO# "Power-Fail Logic Output. This pin asserts low when  the PFI input voltage is below its threshold and goes high  when the PFI input voltage is above its threshold. This pin  provides a weak pull-up current to V1. This current is typically 29µA at V1 = 3.3V. The pin can be pulled to voltages  higher than V1 by external pull-up resistors. PFO provides  an early warning signal of a system power failure.", 4 RST# "Reset Logic Output. This pin asserts low when any  of the V1, V2, or ADJ inputs are below their reset thresholds. Pulls high when all the monitored inputs are above  their thresholds for longer than a timeout period. This pin  provides a weak pull-up current to V1. This current is typically 29µA at V1 = 3.3V. The pin can be pulled to voltages  higher than V1 by external pull-up resistors. The status of  RST can be latched by holding the TMR pin at GND", 5 GND "Device Ground.", 6 TMR "Reset Timeout Control. Attach an external capacitor,  CTMR, to GND to set a reset timeout period of 9.4ms/nF. A  low leakage ceramic capacitor is recommended for timer  accuracy. A 2.2nF capacitor generates a 20ms timeout.", 7 ADJ ": Adjustable Voltage Monitor Input.", 8 PFI "Power-Fail Voltage Monitor Input. Input to the powerfail comparator with a 500mV threshold at the falling  edge and a 515mV threshold at the rising edge, giving  a 3% hysteresis for noise rejection. Tie to V1 or GND if  unused", 9 PAD "Exposed pad may be left open  or connected to device ground."

## MOLEX 0512810594
designator J?, comment In a Pack of 50, Molex 51281 Series 0.5mm Pitch 5 Way SMT Female FPC Connector, Non-ZIF
Manufacturer Part Number: 0512810594; Voltage Rating: 50V; Current Rating: 500mA; Number of Positions: 5; Contact Resistance: 20mR; Wire/Cable Type: Straight; Supplier 1: Digi-Key; Supplier Part Number 1: WM12846CT-ND; Manufacturer: Molex; RoHS: Yes; Category: FFC / FPC; Stock 1: 41273; Pricing 1: 1=0.51000, 10=0.43300, 100=0.33680, 1000=0.26466 (USD); Mount: Surface Mount; Housing Material: Polymer; Contact Material: Bronze; Contact Plating: Gold; Housing Color: Natural; Min Operating Temperature: -20°C; Max Operating Temperature: 85°C; Orientation: Right Angle; Number of Rows: 1; Packaging: Tape and Reel; Package Quantity: 1; Termination: Solder; Number of Contacts: 5; Length: 4.6mm; Pitch: 0.5mm; Depth: 3.75mm; Flammability Rating: UL94 V-0; ComponentLink1URL: https://datasheet.ciiva.com/2943/512810594-sd-2943242.pdf?src-supplier=Digi-Key; ComponentLink1Description: https://datasheet.ciiva.com/2943/512810594-sd-2943242.pdf?src-supplier=Digi-Key; ComponentLink2URL: https://datasheet.ciiva.com/15244/50650512810594-ffc-fpc-nectors-15244969.pdf?src-supplier=Arrow+Europe; ComponentLink2Description: https://datasheet.ciiva.com/15244/50650512810594-ffc-fpc-nectors-15244969.pdf?src-supplier=Arrow+Europe; ComponentLink3URL: https://datasheet.ciiva.com/18491/512810694-sd-18491898.pdf?src-supplier=Digi-Key; ComponentLink3Description: https://datasheet.ciiva.com/18491/512810694-sd-18491898.pdf?src-supplier=Digi-Key; Supplier 2: Digi-Key; Supplier Part Number 2: WM12846TR-ND; Supplier 3: Avnet; Supplier Part Number 3: 0512810594; Supplier 4: Mouser; Supplier Part Number 4: 538-51281-0594; Supplier 5: Arrow Electronics; Supplier Part Number 5: 51281-0594; Supplier 6: RSComponents; Supplier Part Number 6: 1789936; Supplier 7: Newark; Supplier Part Number 7: 14AC5528
footprint WURTH 0512810594
pins: 1, 2, 3, 4, 5

## Murata MM8130-2600
designator J?, comment MM8130-2600
CONN SWF RCPT STR 50 OHM SMD; Manufacturer: Murata; Part number IPS: 00000009955; Artikkelnr Noca: 55029011; Impedance: 50R; Frequency: 6GHz; Connector Type: Jack,Socket; Voltage Rating: 250V; Insulation Resistance: 500MR; Operating Frequency: 0 to 6 GHz; Gender: Female; Part Number: MM8130-2600; Manufacturer Part Number: MM8130-2600; LatestRevisionDate: 2014-04-24; Pin Count: 3; Publisher: Nordic Semiconductor; Published: 2014-04-24; Value: MM8130-2600; Note: *; Footprint Doc: COAXIAL-SWF; ComponentLink1URL: *; ComponentLink1Description: Datasheet; ComponentLink2URL: *; ComponentLink2Description: Supplier link; HelpURL: http://www.murata.com/products/catalog/pdf/o33e.pdf; Supplier 1: Digi-Key; Supplier Part Number 1: 490-4981-1-ND; Supplier 2: Mouser; Supplier Part Number 2: 81-MM8130-2600RA2; RoHS: Yes; Category: RF / Coaxial Connectors; Stock 1: 42032; Pricing 1: 1=0.33000, 10=0.31400, 25=0.26960, 50=0.22900, 100=0.22000, 250=0.19756, 500=0.18858, 1000=0.15715 (USD); Mount: Surface Mount; Case/Package: SMD/SMT; Housing Color: Gold; Min Operating Temperature: -40°C; Max Operating Temperature: 85°C; Termination: Solder; Orientation: Vertical; Packaging: Tape and Reel; Package Quantity: 1; Fastening Type: Pull; Max Frequency: 6GHz; Series: 8130; Contact Type: Jack; Length: 2.5mm; Depth: 2.5mm; Radiation Hardening: No; RoHS Compliant: Yes; Lead Free: Lead Free; ComponentLink3URL: https://datasheet.ciiva.com/14157/04615200-1-14157602.pdf?src-supplier=Distrelec; ComponentLink3Description: https://datasheet.ciiva.com/14157/04615200-1-14157602.pdf?src-supplier=Distrelec; ComponentLink4URL: https://datasheet.ciiva.com/13541/mm8130-260020datasheet-202944-13541575.pdf?src-supplier=Mouser; ComponentLink4Description: https://datasheet.ciiva.com/13541/mm8130-260020datasheet-202944-13541575.pdf?src-supplier=Mouser; ComponentLink5URL: https://datasheet.ciiva.com/16465/l0391e-16465766.pdf?src-supplier=Future+Electronics; ComponentLink5Description: https://datasheet.ciiva.com/16465/l0391e-16465766.pdf?src-supplier=Future+Electronics; Supplier 3: Digi-Key; Supplier Part Number 3: 490-4981-2-ND; Supplier 4: Arrow Electronics; Supplier Part Number 4: MM8130-2600RA2
footprint COAXIAL-SWF
pins: 1 IN, 2 Shield, 3 OUT

## MX25R6435FM2IH0
designator U?, comment IC FLASH 64M SPI 80MHZ 8SOP
Manufacturer: Macronix; Manufacturer Part Number: MX25R6435FM2IH0; Memory Type: FLASH,NOR; Interface: SPI,Serial; Supplier 1: Digi-Key; Supplier Part Number 1: 1092-1171-ND; RoHS: Yes; Category: Memory; Stock 1: 1557; Pricing 1: 1=1.40000, 10=1.27700, 25=1.24280, 50=1.23640, 100=1.10530, 250=1.10208, 500=1.08544, 1000=1.03936, 5000=0.96768 (USD); Case/Package: SOIC; Min Operating Temperature: -40°C; Max Operating Temperature: 85°C; Packaging: Rail/Tube; Frequency: 80MHz; Lead Free: Lead Free; RoHS Compliant: Yes; ComponentLink1URL: http://ckassoc.com/oldsite/pdf/Macronix_Product_Line_Card_July_2017_General%20_070617.pdf?src-supplier=Digi-Key; ComponentLink1Description: http://ckassoc.com/oldsite/pdf/Macronix_Product_Line_Card_July_2017_General%20_070617.pdf?src-supplier=Digi-Key
footprint SOP127P790X216-8L (SOP, 8-Leads, Body 5.23x5.28mm, Pitch 1.27mm, IPC High Density)
pins: 1 CS# (in), 2 SO/SIO1 (io), 3 WP#/SIO2 (io), 4 GND, 5 SI/SIO0 (io), 6 SCLK (in), 7 RESET#/SIO3 (io), 8 VCC 

## NDK NX3215SE-32.768K-STD-MUA-17
designator X?
Crystal 32.7680KHZ SMD; Manufacturer: NDK; Manufacturer Part Number: NX3215SE-32.768K-STD-MUA-17; Frequency: 32.768kHz; Frequency Tolerance: 20ppm; Load Capacitance: 12.5pF; ESR (Equivalent Series Resistance): 20kR; ComponentLink1URL: *; ComponentLink1Description: Datasheet; ComponentLink2URL: *; ComponentLink2Description: Supplier link; Supplier 1: Digi-Key; Supplier Part Number 1: 644-1316-1-ND; RoHS: No; Stock 1: 2445; Pricing 1: 1=1.09000, 10=0.96100, 50=0.89880, 100=0.79420, 500=0.75240, 1000=0.62700 (USD); Mount: Surface Mount; Case/Package: SMD/SMT; Min Operating Temperature: -40°C; Max Operating Temperature: 85°C; Packaging: Tape and Reel; ComponentLink3URL: http://www.ndk.com/images/products/catalog/c_NX3215SE_e.pdf?src-supplier=Digi-Key; ComponentLink3Description: http://www.ndk.com/images/products/catalog/c_NX3215SE_e.pdf?src-supplier=Digi-Key; Supplier 2: Digi-Key; Supplier Part Number 2: 644-1316-6-ND
footprint XTAL_3215
pins: 1 inp, 2 out

## NDK_NX3215SE-32.768K-STD-MUA-18
designator X?, comment 32.768kHz
CRYSTAL 32.7680KHZ 9PF SMD; Part Number: XTAL_SMD3215_32.768kHz_9pF_NDK; Manufacturer: NDK; Manufacturer Part Number: NX3215SE-32.768K-STD-MUA-18; Note: XTAL SMD 32.768kHz; Pin Count: 2; ComponentLink1URL: *; ComponentLink1Description: Datasheet; ComponentLink2URL: *; ComponentLink2Description: Supplier link; HelpURL: *; Supplier 1: Digi-Key; RoHS: No; Pricing 1: 3000=0.60610 (USD); Supplier Unit Price 1: $0.6061; Supplier Location 1: US; Supplier Part Number 1: 644-1315-2-ND; Value: 32.768kHz
footprint XTAL_3215
pins: 1 inp, 2 out

## NET TIE RECT
designator NT?, comment Rectangular Net Tie  (net tie, no BOM)
footprint NET_TIE_RECT
pins: 0 IN0, 1 IN1, 2 OUT

## NET TIE VIA
designator NT?, comment Via Net Tie  (net tie, no BOM)
footprint NET_TIE_VIA
pins: 0 IN0, 1 IN1, 2 OUT

## NRF52840_QIAA
designator U?, comment nRF52840-QIAA
Multi-protocol Bluetooth Low Energy, IEEE 802.15.4, ANT and 2.4GHz proprietary system-on-chip; Part Number: nRF52840-QIAAD0; Manufacturer: Nordic Semiconductor; LatestRevisionDate: 2018-12-04; Pin Count: 73; Publisher: Nordic Semiconductor; Published: 2018-12-04; Value: nRF52840-QIAA; Note: *; Footprint Doc: AQFN-73; Manufacturer Part Number: nRF52840-QIAAD0
footprint AQFN50P700X700X85_HS-74N
pins: 74 PAD (power), A8 P0.31/AIN7 (io), A10 P0.29/AIN5 (io), A12 P0.02/AIN0 (io), A14 P1.15 (io), A16 P1.13 (io), A18 DEC2 (power), A20 P1.10 (io), A22 VDD (power), A23 XC2 (out), AA24 SWDCLK (in), AB2 DCCH (power), AC5 DECUSB (power), AC9 P0.14 (io), AC11 P0.16 (io), AC13 P0.18/RESET (io), AC15 P0.19 (io), AC17 P0.21 (io), AC19 P0.23 (io), AC21 P0.25 (io), AC24 SWDIO (io), AD2 VBUS (power), AD4 D- (io), AD6 D+ (io), AD8 P0.13 (io), AD10 P0.15 (io), AD12 P0.17 (io), AD14 VDD (power), AD16 P0.20 (io), AD18 P0.22 (io), AD20 P0.24 (io), AD22 P1.00 (io), AD23 VDD (power), B1 VDD (power), B3 DCC (out), B5 DEC4 (power), B7 VSS (power), B9 P0.30/AIN6 (io), B11 P0.28/AIN4 (io), B13 P0.03/AIN1 (io), B15 P1.14 (io), B17 P1.12 (io), B19 P1.11 (io), B24 XC1 (in), C1 DEC1 (power), D2 P0.00/XL1 (io), D23 DEC3 (power), E24 DEC6 (power), F2 P0.01/XL2 (io), F23 VSS_PA (power), G1 P0.26 (io), H2 P0.27 (io), H23 ANT (io), J1 P0.04/AIN2 (io), J24 P0.10/NFC2 (io), K2 P0.05/AIN3 (io), L1 P0.06 (io), L24 P0.09/NFC1 (io), M2 P0.07 (io), N1 P0.08 (io), N24 DEC5 (power), P2 P1.08 (io), P23 P1.07 (io), R1 P1.09 (io), R24 P1.06 (io), T2 P0.11 (io), T23 P1.05 (io), U1 P0.12 (io), U24 P1.04 (io), V23 P1.03 (io), W1 VDD (power), W24 P1.02 (io), Y2 VDDH (power), Y23 P1.01 (io)
text: nRF52840

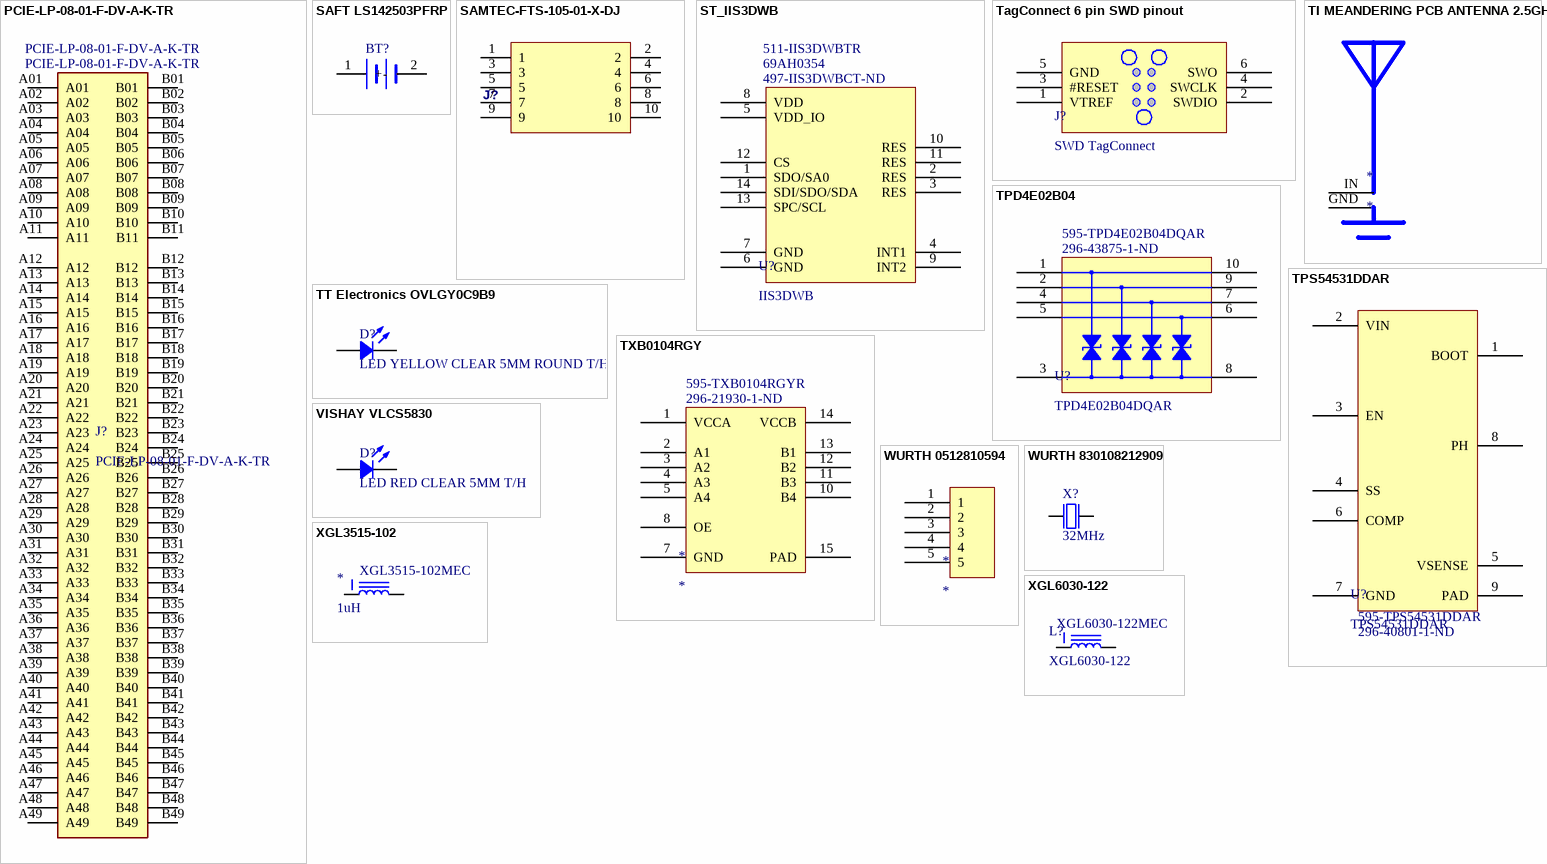
[diagram p3: symbols PCIE-LP-08-01-F-DV-A-K-TR to XGL6030-122]

## PCIE-LP-08-01-F-DV-A-K-TR
designator J?  (mechanical)
1.00 mm PCI Expresss® Edge Card Connector; MP: PCIE-LP-08-01-F-DV-A-K-TR; Price: None; Package: None; Availability: Unavailable; Value: *; Supplier 1: Avnet; Supplier 2: Arrow Electronics; Supplier Part Number 1: PCIE-LP-08-01-F-DV-A-K-TR; Supplier Part Number 2: PCIE-LP-08-01-F-DV-A-K-TR
footprint SAMTEC_PCIE-LP-08-01-F-DV-A-K-TR
pins: A01, A02, A03, A04, A05, A06, A07, A08, A09, A10, A11, A12, A13, A14, A15, A16, A17, A18, A19, A20, A21, A22, A23, A24, A25, A26, A27, A28, A29, A30, A31, A32, A33, A34, A35, A36, A37, A38, A39, A40, A41, A42, A43, A44, A45, A46, A47, A48, A49, B01, B02, B03, B04, B05, B06, B07, B08, B09, B10, B11, B12, B13, B14, B15, B16, B17, B18, B19, B20, B21, B22, B23, B24, B25, B26, B27, B28, B29, B30, B31, B32, B33, B34, B35, B36, B37, B38, B39, B40, B41, B42, B43, B44, B45, B46, B47, B48, B49

## SAFT LS142503PFRP
designator BT?, comment BAT0361201XL  (value not drawn)
Lithium battery 3.6 V 1200 mAh, LS14250 3PFRP, Saft; Capacity: 1.2ah; Supplier 1: Farnell; Supplier Part Number 1: 3292576; Supplier 2: RSComponents; Supplier Part Number 2: 778-1147; Manufacturer: Saft; Manufacturer Part Number: LS142503PFRP; RoHS: No; Category: Uncategorized; Stock 2: 1; Pricing 2: 1=9.14600 (USD); Case/Package: Radial; Material: Lithium; Min Operating Temperature: -60°C; Max Operating Temperature: 85°C; Termination: PCB; Chemistry/Technology: Lithium; ComponentLink1URL: https://datasheet.ciiva.com/30460/0900766b8123110b-30460198.pdf?src-supplier=RSComponents; ComponentLink1Description: https://datasheet.ciiva.com/30460/0900766b8123110b-30460198.pdf?src-supplier=RSComponents; ComponentLink2URL: https://datasheet.ciiva.com/14159/ls-14250-eng-tds-14159037.pdf?src-supplier=Distrelec; ComponentLink2Description: https://datasheet.ciiva.com/14159/ls-14250-eng-tds-14159037.pdf?src-supplier=Distrelec
footprint SAFT LS142503PFRP
pins: 1 +, 2 -

## SAMTEC-FTS-105-01-X-DJ
designator J?
SAMTEC - FTS-105-01-F-D - Board-To-Board Connector, 1.27 mm, 10 Contacts, Header, FTS Series, Through Hole, 2 Rows; Number of Contacts: 10; Gender: Male; Pitch: 1.27mm; Supplier 1: Digi-Key; Supplier Part Number 1: SAM9420-ND; Manufacturer: Samtec; Manufacturer Part Number: FTS-105-01-F-D; RoHS: Yes; Category: Headers and Wire Housings; Stock 1: 5912; Pricing 1: 1=1.99000, 10=1.80600, 93=1.54828, 465=1.29028, 1023=1.10595, 4929=0.98061, 9858=0.95849 (USD); Contact Plating: Gold; Contact Material: Bronze; Housing Material: Polymer; Housing Color: Black; Min Operating Temperature: -55°C; Max Operating Temperature: 125°C; Termination: Solder; Number of Rows: 2; Packaging: Rail/Tube; Orientation: Straight; Length: 6.35mm; Depth: 3.42mm; Radiation Hardening: No; REACH SVHC: No SVHC; ComponentLink1URL: https://datasheet.ciiva.com/7423/1596287-7423420.pdf?src-supplier=Newark; ComponentLink1Description: https://datasheet.ciiva.com/7423/1596287-7423420.pdf?src-supplier=Newark; Supplier 2: RSComponents; Supplier Part Number 2: 1585753; Supplier 3: Mouser; Supplier Part Number 3: 200-FTS10501FD; Supplier 4: Newark; Supplier Part Number 4: 01AC1951; Supplier 5: Arrow Electronics; Supplier Part Number 5: FTS-105-01-F-D
footprint SAMTEC-FTS-105-01-X-D
pins: 1, 2, 3, 4, 5, 6, 7, 8, 9, 10

## ST_IIS3DWB
designator U?, comment IIS3DWB  Supplier Part Number 1: 497-IIS3DWBCT-ND  Supplier Part Number 2: 69AH0354  Supplier Part Number 3: 511-IIS3DWBTR
Manufacturer: STMicroelectronics; Manufacturer Part Number: IIS3DWBTR; Supplier 1: Digi-Key; Supplier 2: Newark; Supplier 3: Mouser; RoHS: Yes; Category: Accelerometers; Pricing 1: 1=17.64000, 10=16.21200, 25=15.54000, 100=14.00000 (USD); Stock 3: 13; Pricing 3: 1=16.80000, 10=15.44000, 50=14.80000, 100=14.00000, 1000=14.00000, 10000=14.00000 (USD); Stock 2: 4; Pricing 2: 1=21.34000, 10=19.61000, 25=19.02000, 50=18.80000, 100=17.79000 (USD)
footprint PQFN50P250X300X86-14N
pins: 1 SDO/SA0 "SPI 4-wire interface serial data output (SDO)  I²C (1) least significant bit of the device address (SA0)", 2 RES "Connect to VDD_IO or GND", 3 RES "Connect to VDD_IO or GND", 4 INT1 "Programmable interrupt #1", 5 VDD_IO "Power supply for I/O pins", 6 GND "Connect to GND", 7 GND "Connect to GND", 8 VDD "Power supply", 9 INT2 "Programmable interrupt #2", 10 RES "Connect to VDD_IO or leave unconnected", 11 RES "Connect to VDD_IO or leave unconnected", 12 CS "I²C/SPI (1) mode selection  (1: SPI idle mode / I²C (1) communication enabled;  0: SPI communication mode / I²C (1) disabled)", 13 SPC/SCL "SPI serial port clock (SPC)  I²C serial clock (SCL)", 14 SDI/SDO/SDA "SPI serial data input (SDI)  3-wire interface serial data output (SDO)  I²C serial data (SDA)"

## TagConnect 6 pin SWD pinout
designator J?, comment SWD TagConnect
6 pin Tag Connect pinout for SEGGER Jlink adapter.
footprint TC2030-MCP
footprint TC2030-MCP-NL
pins: 1 VTREF, 2 SWDIO, 3 #RESET, 4 SWCLK, 5 GND, 6 SWO
1 alternate drawing of the same symbol

## TI MEANDERING PCB ANTENNA 2.5GHZ
designator *
footprint TI SWRA117D PCB ANTENNA
pins: GND, IN

## TPD4E02B04
designator U?, comment TPD4E02B04DQAR  Supplier Part Number 1: 296-43875-1-ND  Supplier Part Number 2: 595-TPD4E02B04DQAR
TVS DIODE 3.6V 8.8V 10USON; Manufacturer: Texas Instruments; Number of Bidirectional Channels: 4; Min Breakdown Voltage: 5.5V; Peak Pulse Power: 17W; Power Line Protection: No; Peak Pulse Current: 5A; Interface: USB,HDMI; Supplier 1: Digi-Key; Manufacturer Part Number: TPD4E02B04DQAR; RoHS: Yes; Category: Embedded Processors and Controllers; Stock 1: 54487; Pricing 1: 1=0.65000, 10=0.55500, 100=0.38580, 500=0.30126, 1000=0.24486 (USD); Mount: Surface Mount; Number of Pins: 10; Min Operating Temperature: -40°C; Max Operating Temperature: 125°C; Packaging: Cut Tape; Reverse Standoff Voltage: 3.6V; Clamping Voltage: 8.8V; Number of Channels: 4; Resistor Type: Zener; Operating Supply Voltage: 3.6V; REACH SVHC: No SVHC; RoHS Compliant: Yes; Lead Free: Lead Free; ComponentLink1URL: http://www.ti.com/lit/ds/symlink/tpd4e02b04.pdf?src-supplier=Digi-Key; ComponentLink1Description: http://www.ti.com/lit/ds/symlink/tpd4e02b04.pdf?src-supplier=Digi-Key; ComponentLink2URL: http://www.ti.com/general/docs/lit/getliterature.tsp?genericPartNumber=TPD4E02B04&amp;&amp;fileType=pdf&src-supplier=Element14; ComponentLink2Description: http://www.ti.com/general/docs/lit/getliterature.tsp?genericPartNumber=TPD4E02B04&amp;&amp;fileType=pdf&src-supplier=Element14; ComponentLink3URL: http://www.ti.com/lit/ds/symlink/tpd4e02b04.pdf?src-supplier=Farnell; ComponentLink3Description: http://www.ti.com/lit/ds/symlink/tpd4e02b04.pdf?src-supplier=Farnell; ComponentLink4URL: http://www.ti.com/lit/ds/symlink/tpd4e02b04.pdf?src-supplier=Newark; ComponentLink4Description: http://www.ti.com/lit/ds/symlink/tpd4e02b04.pdf?src-supplier=Newark; Supplier 2: Mouser; Stock 2: 45380; Pricing 2: 1=0.61000, 10=0.51400, 50=0.51400, 100=0.35800, 1000=0.23100, 10000=0.21700 (USD)
footprint SON50P100X55-10L (SON, 10-Leads, Body 2.50x1.00mm, Pitch 0.50mm, IPC High Density)
pins: 1 IO1, 2 IO2, 3 GND, 4 IO3, 5 IO4, 6 IO4, 7 IO3, 8 GND, 9 IO2, 10 IO1

## TPS54531DDAR
designator U?  Supplier Part Number 1: 296-40801-1-ND  Supplier Part Number 2: 595-TPS54531DDAR
TEXAS INSTRUMENTS - TPS54531DDAR - DC-DC Switching Buck Step Down Regulator, Adjustable, 3.5V-28Vin, 570 kHz, 0.8V-25V/5Aout, SOIC-8; Quiescent Current: 110uA; Number of Outputs: 1; Max Output Current: 5A; Min Input Voltage: 3.5V; Max Input Voltage: 28V; Min Output Voltage: 800mV; Max Output Voltage: 26.04V; Synchronous Rectifier: No; Output Voltage: 25V; Switching Frequency: 570kHz; Output Configuration: Positive; Supplier 1: Digi-Key; Manufacturer: Texas Instruments; Manufacturer Part Number: TPS54531DDAR; RoHS: Yes; Category: Voltage Regulators - Switching; Stock 1: 5926; Pricing 1: 1=1.65000, 10=1.48300, 25=1.39920, 100=1.11940, 250=0.97944, 500=0.95146, 1000=0.75557 (USD); Mount: Surface Mount; Case/Package: SOIC; Number of Pins: 8; Min Operating Temperature: -40°C; Max Operating Temperature: 85°C; Package Quantity: 2500; Packaging: Tape and Reel; Output Current: 5A; Min Supply Voltage: 3.5V; Output Type: Adjustable; Operating Supply Voltage: 28V; Radiation Hardening: No; Lead Free: Lead Free; REACH SVHC: No SVHC; ComponentLink1URL: https://datasheet.ciiva.com/30031/tps54531-30031574.pdf?src-supplier=Avnet; ComponentLink1Description: https://datasheet.ciiva.com/30031/tps54531-30031574.pdf?src-supplier=Avnet; ComponentLink2URL: https://datasheet.ciiva.com/18551/tps54531-18551180.pdf?src-supplier=Digi-Key; ComponentLink2Description: https://datasheet.ciiva.com/18551/tps54531-18551180.pdf?src-supplier=Digi-Key; Supplier 2: Mouser; Stock 2: 10581; Pricing 2: 1=1.56000, 10=1.32000, 50=1.32000, 100=1.06000, 1000=0.71300, 10000=0.68600 (USD)
footprint SOIC127P600X170_HS-9L (SOIC, 8-Leads, Body 4.90x3.90mm, Pitch 1.27mm, Thermal Pad 3.10x2.40mm, IPC High Density)
pins: 1 BOOT "A 0.1-μF bootstrap capacitor is required between the BOOT and PH pins. I", 2 VIN "This pin is the 3.5- to 28-V input supply voltage", 3 EN "This pin is the enable pin. To disable, pull below 1.25 V. Float this pin to enable. Programming the 3 EN input undervoltage lockout with two resistors is recommended.", 4 SS "This pin is slow-start pin. An external capacitor connected to this pin sets the output rise time.", 5 VSENSE "This pin is the inverting node of the transconductance (gm) error amplifier.", 6 COMP "This pin is the error-amplifier output and the input to the PWM comparator. Connect frequency 6 COMP compensation components to this pin.", 7 GND "Ground pin", 8 PH "The PH pin is the source of the internal high-side power MOSFET.", 9 PAD "For proper operation, the GND pin must be connected to the exposed pad."

## TT Electronics OVLGY0C9B9
designator D?, comment LED YELLOW CLEAR 5MM ROUND T/H
Manufacturer: TT Optek; Manufacturer Part Number: OVLGY0C9B9; Lens Color: Colorless; Luminous Intensity: 14000mcd; Viewing Angle: 6°; Forward Voltage: 2V; Lens Style: Dome,Clear,Round; Wavelength: 595nm; Forward Current: 20mA; Dominant Wavelength: 589nm; Power Dissipation: 72mW; Lead Length: 25.4mm; Supplier 1: Digi-Key; Supplier Part Number 1: 365-1190-ND; RoHS: Yes; Category: LEDs; Stock 1: 7787; Pricing 1: 1=0.23000, 100=0.22000, 500=0.19800, 5000=0.18700, 25000=0.16500 (USD); Mount: Through Hole; Case/Package: Radial; Color: Yellow; Min Operating Temperature: -40°C; Max Operating Temperature: 100°C; Package Quantity: 500; Packaging: Bulk; Illumination Color: Yellow; Test Current: 20mA; Lens Transparency: Clear; Series: -; Height: 8.9mm; REACH SVHC: No SVHC; Lead Free: Lead Free; RoHS Compliant: Yes; ComponentLink1URL: https://datasheet.ciiva.com/2113/ovlg-series-2113151.pdf?src-supplier=Digi-Key; ComponentLink1Description: https://datasheet.ciiva.com/2113/ovlg-series-2113151.pdf?src-supplier=Digi-Key; Supplier 2: Mouser; Supplier Part Number 2: 828-OVLGY0C9B9
footprint Generic 2.54mm LED THT
pins: 1, 2